# EAGLE library part IC_28 (library Atmel_Prototype_Header)
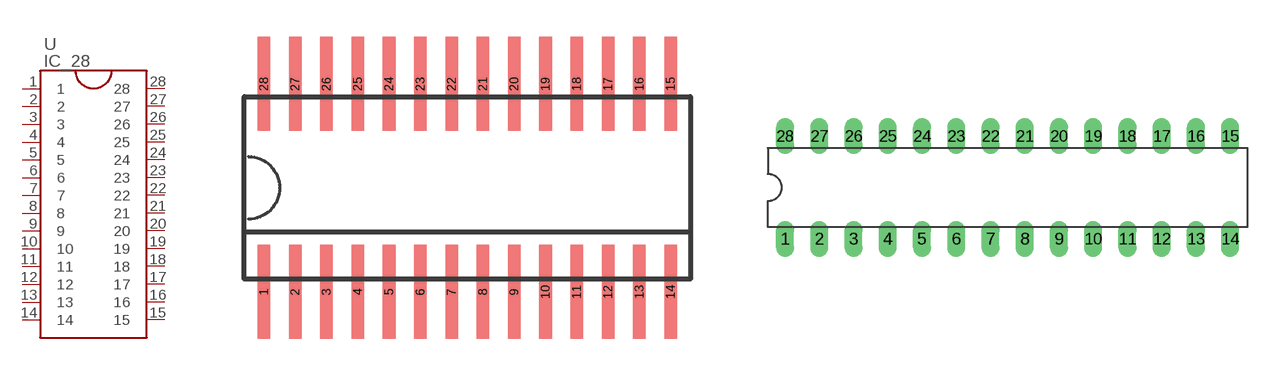
[diagram p10: symbol with the pads of SO28W_SOP28_EZ; footprints SO28W_SOP28_EZ, DIL-28-3]

Designator prefix U

## IC_28_EZ  [SO28W_SOP28_EZ]
1  1
2  2
3  3
4  4
5  5
6  6
7  7
8  8
9  9
10  10
11  11
12  12
13  13
14  14
15  15
16  16
17  17
18  18
19  19
20  20
21  21
22  22
23  23
24  24
25  25
26  26
27  27
28  28

## IC_28_DIP  [DIL-28-3]
Pads as for SO28W_SOP28_EZ

## IC_28_H  [HEADER_DUAL_DIP28_43]
Pads as for SO28W_SOP28_EZ

## Footprint SO28W_SOP28_EZ (pad centres in mm)
smd 0.508 x 3.81: 1 -8.255,-4.219; 2 -6.985,-4.219; 3 -5.715,-4.219; 4 -4.445,-4.219; 5 -3.175,-4.219; 6 -1.905,-4.219; 7 -0.635,-4.219; 8 0.635,-4.219; 9 1.905,-4.219; 10 3.175,-4.219; 11 4.445,-4.219; 12 5.715,-4.219; 13 6.985,-4.219; 14 8.255,-4.219; 15 8.255,4.219; 16 6.985,4.219; 17 5.715,4.219; 18 4.445,4.219; 19 3.175,4.219; 20 1.905,4.219; 21 0.635,4.219; 22 -0.635,4.219; 23 -1.905,4.219; 24 -3.175,4.219; 25 -4.445,4.219; 26 -5.715,4.219; 27 -6.985,4.219; 28 -8.255,4.219

## Footprint DIL-28-3 (pad centres in mm)
drill 0.813 pad 1.321 long: 1 -16.51,-3.81; 2 -13.97,-3.81; 3 -11.43,-3.81; 4 -8.89,-3.81; 5 -6.35,-3.81; 6 -3.81,-3.81; 7 -1.27,-3.81; 8 1.27,-3.81; 9 3.81,-3.81; 10 6.35,-3.81; 11 8.89,-3.81; 12 11.43,-3.81; 13 13.97,-3.81; 14 16.51,-3.81; 15 16.51,3.81; 16 13.97,3.81; 17 11.43,3.81; 18 8.89,3.81; 19 6.35,3.81; 20 3.81,3.81; 21 1.27,3.81; 22 -1.27,3.81; 23 -3.81,3.81; 24 -6.35,3.81; 25 -8.89,3.81; 26 -11.43,3.81; 27 -13.97,3.81; 28 -16.51,3.81

## Footprint HEADER_DUAL_DIP28_43 (pad centres in mm)
drill 1.1 square: 1 -10.16,7.62
drill 1.1 round: 2 -7.62,7.62; 3 -10.16,5.08; 4 -7.62,5.08; 5 -10.16,2.54; 6 -7.62,2.54; 7 -10.16,0; 8 -7.62,0; 9 -10.16,-2.54; 10 -7.62,-2.54; 11 -10.16,-5.08; 12 -7.62,-5.08; 13 -10.16,-7.62; 14 -7.62,-7.62; 15 7.62,-7.62; 16 10.16,-7.62; 17 7.62,-5.08; 18 10.16,-5.08; 19 7.62,-2.54; 20 10.16,-2.54; 21 7.62,0; 22 10.16,0; 23 7.62,2.54; 24 10.16,2.54; 25 7.62,5.08; 26 10.16,5.08; 27 7.62,7.62; 28 10.16,7.62